# Altium integrated library molex_43045.IntLib: 9 symbols
Pins are listed as number, name and electrical type; pins without a type are passive.

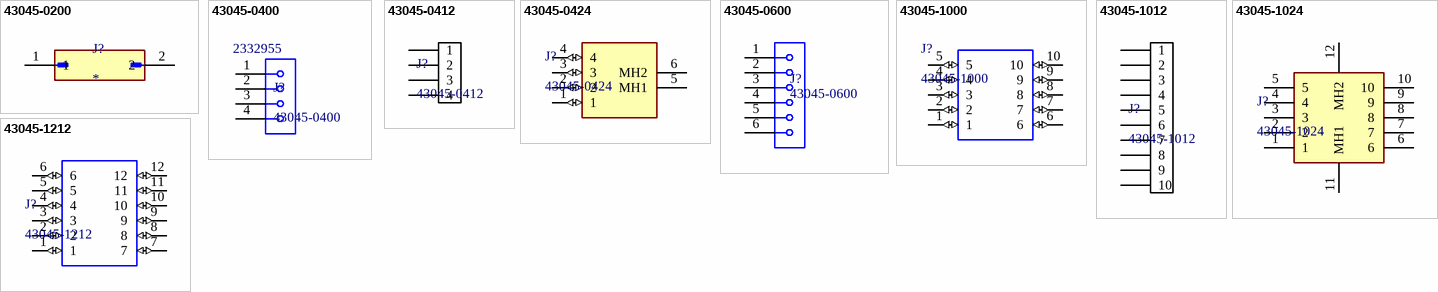
[diagram p0: symbols 43045-0200 to 43045-1212]

## 43045-0200
designator J?
Connector Header Through Hole, Right Angle 2 position -; MF: Molex; MP: 43045-0200; Digi-Key_Part_Number: WM1813-ND; SnapEDA_Link: https://www.snapeda.com/parts/43045-0200/Molex/view-part/?ref=snap; Purchase-URL: https://pricing.snapeda.com/search/part/43045-0200/?ref=eda; Package: None; Check_prices: https://www.snapeda.com/parts/43045-0200/Molex/view-part/?ref=eda; Value: *
footprint MOLEX_43045-0200
pins: 1, 2

## 43045-0400
designator J?  Supplier Part Number 1: 2332955
Micro-Fit 3.0 Right-Angle Header, 3.00mm Pitch, Dual Row, 4 Circuits, with Snap-in Plastic Peg PCB Lock, Tin, Glow-Wire Capable, Black; MF: Molex; Contact Resistance: 10mR; Number of Positions: 4; Max Voltage Rating (AC): 250V; Connector Type: Male Pin; Pitch: 3mm; Row Spacing: 0.118inch; Value: *; Package: None; MP: 43045-0400; Price: None; Availability: Unavailable; SnapEDA_Link: https://www.snapeda.com/parts/43045-0400/Molex/view-part/125878/?ref=snap; Supplier 1: RSComponents; Manufacturer: Molex; Manufacturer Part Number: 43045-0400; RoHS: Yes; Category: Headers and Wire Housings; Stock 1: 1480; Pricing 1: 5=1,48900, 125=1,16400, 500=0,95900, 2500=0,76400, 5000=0,72500, 5=1,07200, 125=0,83800, 500=0,69000, 2500=0,55000, 5000=0,52200 (USD); Mount: Through Hole; Color: Black; Contact Plating: Tin; Contact Material: Brass; Housing Color: Black; Housing Material: Polymer; Min Operating Temperature: -40°C; Max Operating Temperature: 105°C; Number of Rows: 2; Packaging: Tray; Fastening Type: Ramp; Termination: Solder; Number of Contacts: 4; Orientation: Right Angle; Length: 10.15mm; Depth: 12.2mm; Flammability Rating: UL94 V-0; ComponentLink1URL: https://datasheet.ciiva.com/712/430450200-sd-712017.pdf?src-supplier=Digi-Key; ComponentLink1Description: https://datasheet.ciiva.com/712/430450200-sd-712017.pdf?src-supplier=Digi-Key; ComponentLink2URL: https://datasheet.ciiva.com/20209/22-3744e-20209522.pdf?src-supplier=Rapid+Electronics; ComponentLink2Description: https://datasheet.ciiva.com/20209/22-3744e-20209522.pdf?src-supplier=Rapid+Electronics; ComponentLink3URL: https://datasheet.ciiva.com/11746/0900766b80027348-11746988.pdf?src-supplier=RSComponents; ComponentLink3Description: https://datasheet.ciiva.com/11746/0900766b80027348-11746988.pdf?src-supplier=RSComponents; ComponentLink4URL: https://datasheet.ciiva.com/30193/145420430450400-pcb-headers-30193310.pdf?src-supplier=Onlinecomponents.com; ComponentLink4Description: https://datasheet.ciiva.com/30193/145420430450400-pcb-headers-30193310.pdf?src-supplier=Onlinecomponents.com
footprint 43045-0400
pins: 1, 2, 3, 4

## 43045-0412
designator J?
Micro-Fit 3.0 Vertical Header, 3.00mm Pitch, Dual Row, 4 Circuits, with PCB Polarizing Peg, Tin, Glow-Wire Capable, Black
footprint 43045-0412
pins: 1, 2, 3, 4

## 43045-0424
designator J?
Micro-Fit 3.0 Vertical Header, 3.00mm Pitch, Dual Row, 4 Circuits, with PCB Press-fit Metal Retention Clip, Tin, Glow-Wire Capable, Black; Manufacturer: Molex; Number of Contacts: 4; Contact Resistance: 10mR; Current Rating: 5A; Voltage Rating: 600V; Gender: Male; Max Voltage Rating (DC): 250.25kV; Voltage Rating (DC): 250V; Insulation Resistance: 1GR; Pitch: 3mm; Glow Wire Compliant: Compliant; Supplier 1: RSComponents; Manufacturer Part Number: 43045-0424; RoHS: Yes; Category: Headers and Wire Housings; Stock 1: 1; Pricing 1: 5=1,54800, 100=1,20300, 375=1,10300, 1500=0,86700, 3000=0,81700 (USD); Mount: Through Hole; Contact Plating: Tin; Housing Material: Thermoplastic; Contact Material: Brass; Color: Black; Housing Color: Black; Min Operating Temperature: -40°C; Max Operating Temperature: 105°C; Number of Rows: 2; Termination: Solder; Packaging: Tray; Orientation: Vertical; Number of Positions: 4; Contact Gender: Male; Package Quantity: 2232; Max Current Rating: 5A; Number of Circuits: 4; Length: 10.15mm; Height: 9.91mm; Row Spacing: 3mm; Depth: 8.77mm; REACH SVHC: No SVHC; Halogen Free: Low Halogen; Flammability Rating: UL94 V-0; ComponentLink1URL: https://datasheet.ciiva.com/27051/1300216-27051900.pdf?src-supplier=Jameco; ComponentLink1Description: https://datasheet.ciiva.com/27051/1300216-27051900.pdf?src-supplier=Jameco; ComponentLink2URL: https://datasheet.ciiva.com/11748/0900766b80d48fb6-11748080.pdf?src-supplier=RSComponents; ComponentLink2Description: https://datasheet.ciiva.com/11748/0900766b80d48fb6-11748080.pdf?src-supplier=RSComponents; ComponentLink3URL: https://datasheet.ciiva.com/30055/151640430450424-pcb-headers-30055731.pdf?src-supplier=Onlinecomponents.com; ComponentLink3Description: https://datasheet.ciiva.com/30055/151640430450424-pcb-headers-30055731.pdf?src-supplier=Onlinecomponents.com; ComponentLink4URL: https://datasheet.ciiva.com/5156/0430450424-pcb-headers-142876-5156219.pdf?src-supplier=Mouser; ComponentLink4Description: https://datasheet.ciiva.com/5156/0430450424-pcb-headers-142876-5156219.pdf?src-supplier=Mouser; ComponentLink5URL: https://datasheet.ciiva.com/22637/1630839-22637532.pdf?src-supplier=Element14; ComponentLink5Description: https://datasheet.ciiva.com/22637/1630839-22637532.pdf?src-supplier=Element14
footprint 43045-0424
pins: 1 (io), 2 (io), 3 (io), 4 (io), 5 MH1, 6 MH2

## 43045-0600
designator J?
Micro-Fit 3.0 Right-Angle Header, 3.00mm Pitch, Dual Row, 6 Circuits, with Snap-in Plastic Peg PCB Lock, Tin, Glow-Wire Capable, Black; MF: Molex; Number of Contacts: 6; Current Rating: 5A; Voltage Rating: 250V; Contact Resistance: 10mR; Gender: Male; Insulation Resistance: 1GR; Max Voltage Rating (DC): 250.25kV; Pitch: 3mm; Glow Wire Compliant: Compliant; Approvals: UL,CSA,TUV; value: *; Package: *; Manufacturer: Molex; Manufacturer Part Number: 43045-0600; RoHS: Yes; Category: Headers and Wire Housings; Stock 1: 59808; Pricing 1: 1=2,08000, 10=1,77200, 80=1,46350, 1728=1,11690, 5184=1,02447 (USD); Mount: Through Hole; Case/Package: SMC; Contact Plating: Tin; Color: Black; Contact Material: Brass,Tin; Housing Color: Black; Housing Material: Thermoplastic; Material: Polyester; Min Operating Temperature: -40°C; Max Operating Temperature: 105°C; Number of Rows: 2; Packaging: Tray; Number of Positions: 6; Termination: Solder; Orientation: Right Angle; Number of Circuits: 6; Series: 43045; Package Quantity: 1728; Voltage Rating (DC): 250V; Max Current Rating: 5A; Diameter: 3mm; Length: 13.15mm; Height: 8.77mm; Row Spacing: 3mm; Depth: 12.2mm; Radiation Hardening: No; REACH SVHC: Unknown; Lead Free: Lead Free; Flammability Rating: UL94 V-0; RoHS Compliant: Yes; Halogen Free: Low Halogen; ComponentLink1URL: https://datasheet.ciiva.com/11747/0900766b80027348-11747530.pdf?src-supplier=RSComponents; ComponentLink1Description: https://datasheet.ciiva.com/11747/0900766b80027348-11747530.pdf?src-supplier=RSComponents; ComponentLink2URL: https://datasheet.ciiva.com/30225/179470430450600-pcb-headers-30225817.pdf?src-supplier=Onlinecomponents.com; ComponentLink2Description: https://datasheet.ciiva.com/30225/179470430450600-pcb-headers-30225817.pdf?src-supplier=Onlinecomponents.com; ComponentLink3URL: https://datasheet.ciiva.com/5147/0430450600-pcb-headers-143151-5147470.pdf?src-supplier=Mouser; ComponentLink3Description: https://datasheet.ciiva.com/5147/0430450600-pcb-headers-143151-5147470.pdf?src-supplier=Mouser; ComponentLink4URL: https://datasheet.ciiva.com/19461/883405-19461156.pdf?src-supplier=Jameco; ComponentLink4Description: https://datasheet.ciiva.com/19461/883405-19461156.pdf?src-supplier=Jameco; ComponentLink5URL: https://datasheet.ciiva.com/1443/1850013-1443456.pdf?src-supplier=Element14; ComponentLink5Description: https://datasheet.ciiva.com/1443/1850013-1443456.pdf?src-supplier=Element14; ComponentLink6URL: https://datasheet.ciiva.com/14155/04402310-14155205.pdf?src-supplier=Distrelec; ComponentLink6Description: https://datasheet.ciiva.com/14155/04402310-14155205.pdf?src-supplier=Distrelec; ComponentLink7URL: https://datasheet.ciiva.com/9468/0430450600-pcb-headers-9468489.pdf?src-supplier=Avnet; ComponentLink7Description: https://datasheet.ciiva.com/9468/0430450600-pcb-headers-9468489.pdf?src-supplier=Avnet; ComponentLink8URL: https://datasheet.ciiva.com/16658/0430450600-pcb-headers-16658410.pdf?src-supplier=Avnet+Europe; ComponentLink8Description: https://datasheet.ciiva.com/16658/0430450600-pcb-headers-16658410.pdf?src-supplier=Avnet+Europe
footprint 43045-0600
pins: 1, 2, 3, 4, 5, 6

## 43045-1000
designator J?
Micro-Fit 3.0 Right-Angle Header, 3.00mm Pitch, Dual Row, 10 Circuits, with Snap-in Plastic Peg PCB Lock, Tin, Glow-Wire Capable, Black; MP: 430451000; MF: Molex; Availability: In Stock; SnapEDA_Link: https://www.snapeda.com/parts/430451000/Molex/view-part/4593745/?ref=snap; Value: *; Price: None; Package: None; Check_prices: https://www.snapeda.com/parts/430451000/Molex/view-part/4593745/?ref=eda
footprint 43045-1000
pins: 1 (io), 2 (io), 3 (io), 4 (io), 5 (io), 6 (io), 7 (io), 8 (io), 9 (io), 10 (io)

## 43045-1012
designator J?
Micro-Fit 3.0 Vertical Header, 3.00mm Pitch, Dual Row, 10 Circuits, with PCB Polarizing Peg, Tin, Glow-Wire Capable, Black
footprint 43045-1012
pins: 1, 2, 3, 4, 5, 6, 7, 8, 9, 10

## 43045-1024
designator J?
Micro-Fit 3.0 Vertical Header, 3.00mm Pitch, Dual Row, 10 Circuits, with PCB Press-fit Metal Retention Clip, Tin, Glow-Wire Capable, Black; Manufacturer: Molex; Number of Contacts: 10; Contact Resistance: 10mR; Gender: Male; Voltage Rating (DC): 250V; Max Current Rating: 2A; Current Rating: 5A; Voltage Rating: 600V; Max Voltage Rating (DC): 250.25kV; Pitch: 3mm; Glow Wire Compliant: Compliant; Supplier 1: Digi-Key; Manufacturer Part Number: 43045-1024; RoHS: Yes; Category: Headers and Wire Housings; Stock 1: 153; Pricing 1: 1=2,43000, 10=2,06800, 80=1,70838, 1224=1,34868, 2448=1,25876 (USD); Mount: Through Hole; Contact Plating: Tin,Gold; Housing Color: Black; Housing Material: Thermoplastic; Color: Black; Contact Material: Brass,Copper Alloy; Min Operating Temperature: -55°C; Max Operating Temperature: 105°C; Termination: Solder; Number of Rows: 2; Packaging: Tray; Orientation: Vertical; Number of Positions: 10; Number of Circuits: 10; Contact Gender: Male; Length: 62.61mm; Height: 8.6mm; Row Spacing: 3mm; Depth: 24.6mm; Radiation Hardening: No; Flammability Rating: UL94 V-0; REACH SVHC: No SVHC; Halogen Free: Low Halogen; ComponentLink1URL: https://datasheet.ciiva.com/11752/0900766b80d6135b-11752871.pdf?src-supplier=RSComponents; ComponentLink1Description: https://datasheet.ciiva.com/11752/0900766b80d6135b-11752871.pdf?src-supplier=RSComponents; ComponentLink2URL: https://datasheet.ciiva.com/5162/0430451024-pcb-headers-143176-5162093.pdf?src-supplier=Mouser; ComponentLink2Description: https://datasheet.ciiva.com/5162/0430451024-pcb-headers-143176-5162093.pdf?src-supplier=Mouser; ComponentLink3URL: https://datasheet.ciiva.com/30179/218400430451024-pcb-headers-30179342.pdf?src-supplier=Onlinecomponents.com; ComponentLink3Description: https://datasheet.ciiva.com/30179/218400430451024-pcb-headers-30179342.pdf?src-supplier=Onlinecomponents.com; ComponentLink4URL: https://datasheet.ciiva.com/16736/0430451024-pcb-headers-16736763.pdf?src-supplier=Avnet+Europe; ComponentLink4Description: https://datasheet.ciiva.com/16736/0430451024-pcb-headers-16736763.pdf?src-supplier=Avnet+Europe
footprint 43045-1024
pins: 1, 2, 3, 4, 5, 6, 7, 8, 9, 10, 11 MH1, 12 MH2

## 43045-1212
designator J?
Micro-Fit 3.0 Vertical Header, 3.00mm Pitch, Dual Row, 12 Circuits, with PCB Polarizing Peg, Tin, Glow-Wire Capable, Black
footprint 43045-1212
pins: 1 (io), 2 (io), 3 (io), 4 (io), 5 (io), 6 (io), 7 (io), 8 (io), 9 (io), 10 (io), 11 (io), 12 (io)